# Altium footprint library FP_lib_PCB.PcbLib: 23 footprints (part 1 of 2)
Each footprint in its own frame and in the unit in brackets; x right, y up, seen from the top. Pads: shape width x height; smd on the part's side, far side on the other; paste and mask are expansions set on the pad; w line width, h text height; cw(c..) or ccw(c..) is an arc to the next point about the centre after c.
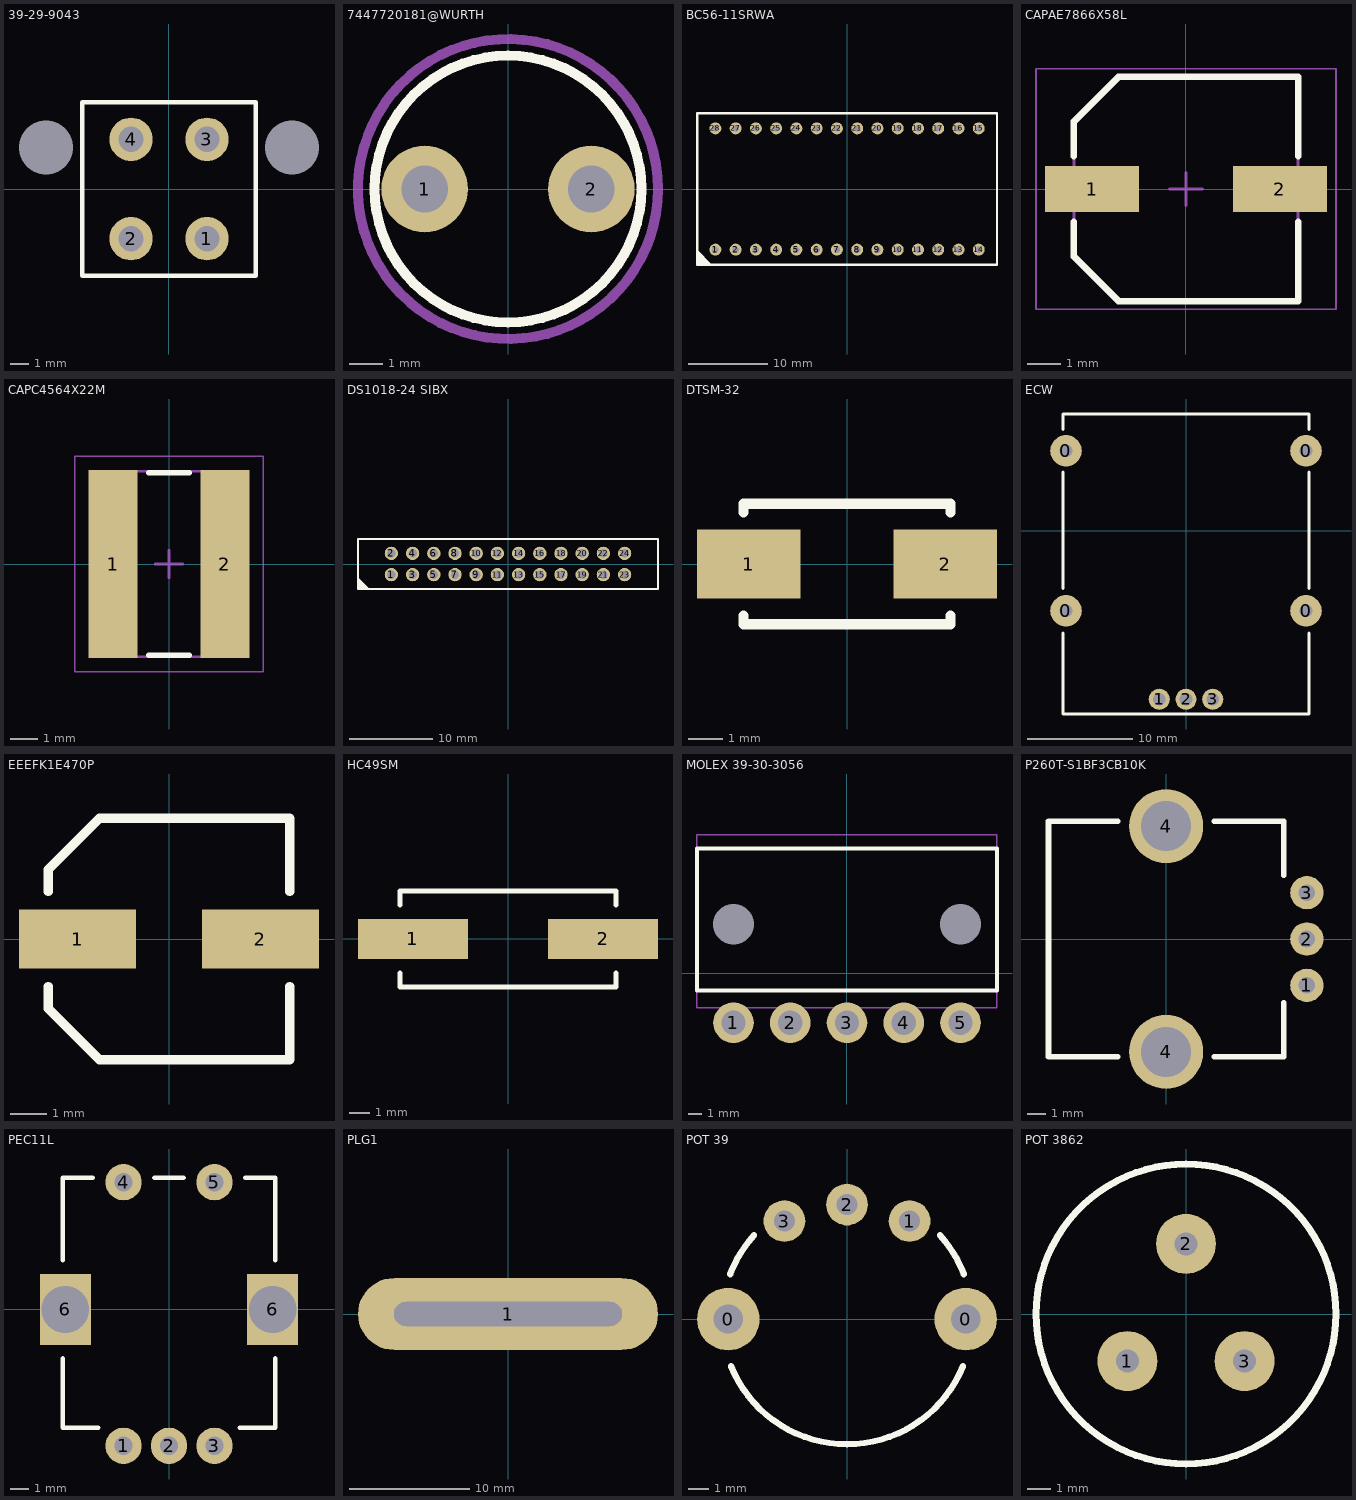
[diagram p0: the footprints below, top view; thin cyan lines are the x and y axes]

## 39-29-9043 [mm]
pads (6):
  round 2.4 hole 1.4: 1(2.1,-2.75) 2(-2.1,-2.75) 3(2.1,2.75) 4(-2.1,2.75)
  round 0 hole 3 unplated: ""(-6.8,2.3) ""(6.8,2.3)
Top Overlay:
  lines w0.254: -4.8,-4.8 -4.8,4.8 4.8,4.8 4.8,-4.8 -4.8,-4.8
3D body "039299043.stp": height 12.81, standoff -3.49, extent -8.189,-5 8.189,6

## 7447720181@WURTH [mm]
height 9.5
pads (2):
  round 2.6 hole 1.4: 1(-2.5,0) 2(2.5,0)
Top Overlay:
  circle w0.3: c0,0 r4
Mechanical 1:
  circle w0.3: c0,0 r4.5
3D body "7447720181.STEP": height 9.5, standoff -2, extent -3.9,-3.9 3.9,3.9

## BC56-11SRWA [mm]
pads (28):
  round 1.5 hole 0.8: 1(-16.51,-7.6) 2(-13.97,-7.6) 3(-11.43,-7.6) 4(-8.89,-7.6) 5(-6.35,-7.6) 6(-3.81,-7.6) 7(-1.27,-7.6) 8(1.27,-7.6) 9(3.81,-7.6) 10(6.35,-7.6) 11(8.89,-7.6) 12(11.43,-7.6) 13(13.97,-7.6) 14(16.51,-7.6) 15(16.51,7.6) 16(13.97,7.6) 17(11.43,7.6) 18(8.89,7.6) 19(6.35,7.6) 20(3.81,7.6) 21(1.27,7.6) 22(-1.27,7.6) 23(-3.81,7.6) 24(-6.35,7.6) 25(-8.89,7.6) 26(-11.43,7.6) 27(-13.97,7.6) 28(-16.51,7.6)
Top Overlay:
  region: -18.8,-9.5 -16.96,-9.5 -18.82,-7.64
  lines w0.3: -18.8,-9.5 18.8,-9.5 18.8,9.5 -18.8,9.5 -18.8,-9.5
3D body "BA56-11SRWA.STEP": height 8.11, standoff -3.99, extent -18.8,-9.5 18.8,9.5

## CAPAE7866X58L [mm] "Aluminum Electrolytic Capacitor, Body 6,60x6,60x5,80mm, IPC High Density"
height 5.8
pads (2):
  rect 2.85x1.4 smd: 1(-2.85,0) 2(2.85,0)
Top Overlay:
  lines w0.2: -3.4,-1 -3.4,-2.05 -2.05,-3.4 3.4,-3.4 3.4,-1 ; -3.4,1 -3.4,2.05 -2.05,3.4 3.4,3.4 3.4,1
Mechanical 13:
  lines w0.1: -3.4,-2.05 -2.05,-3.4 3.4,-3.4 3.4,3.4 -2.05,3.4 -3.4,2.05 -3.4,-2.05
Mechanical 15:
  lines w0.05: -4.55,-3.65 -4.55,3.65 4.55,3.65 4.55,-3.65 -4.55,-3.65
  lines w0.1: -0.5,0 0.5,0 ; 0,-0.5 0,0.5
3D body "CAPAE7866X58L.step": height 5.8, standoff -0.5, extent -3.9,-3.4 3.9,3.4

## CAPC4564X22M [mm] "Chip Capacitor, 2-Leads, Body 4,50x6,40mm, IPC Low Density"
height 2.2
pads (2):
  rect 1.8x6.9 smd: 1(-2.05,0) 2(2.05,0)
Top Overlay:
  lines w0.2: -0.75,-3.35 0.75,-3.35 ; -0.75,3.35 0.75,3.35
Mechanical 13:
  lines w0.1: -2.4,-3.4 2.4,-3.4 2.4,3.4 -2.4,3.4 -2.4,-3.4
Mechanical 15:
  lines w0.05: -3.45,-3.95 3.45,-3.95 3.45,3.95 -3.45,3.95 -3.45,-3.95
  lines w0.1: -0.5,0 0.5,0 ; 0,-0.5 0,0.5
3D body "CAPC4564X22M.step": height 2.2, standoff 0, extent -2.4,-3.4 2.4,3.4

## DS1018-24 SIBX [mm]
height 7.4
pads (24):
  round 1.6 hole 1: 1(-13.97,-1.27) 2(-13.97,1.27) 3(-11.43,-1.27) 4(-11.43,1.27) 5(-8.89,-1.27) 6(-8.89,1.27) 7(-6.35,-1.27) 8(-6.35,1.27) 9(-3.81,-1.27) 10(-3.81,1.27) 11(-1.27,-1.27) 12(-1.27,1.27) 13(1.27,-1.27) 14(1.27,1.27) 15(3.81,-1.27) 16(3.81,1.27) 17(6.35,-1.27) 18(6.35,1.27) 19(8.89,-1.27) 20(8.89,1.27) 21(11.43,-1.27) 22(11.43,1.27) 23(13.97,-1.27) 24(13.97,1.27)
Top Overlay:
  region: -17.97,-1.63 -16.62,-2.98 -17.966,-2.98 -17.97,-2.984
  lines w0.254: -17.97,-2.984 -17.97,2.984 17.97,2.984 17.97,-2.984 -17.97,-2.984
3D body "DS1018-24.STEP": height 7.4, standoff -2, extent -17.89,-3 17.89,3

## DTSM-32 [mm]
pads (2):
  rect 3x2 smd: 1(-2.85,0) 2(2.85,0)
Top Overlay:
  lines w0.3: -3,-1.5 -3,-1.75 3,-1.75 3,-1.5 ; -3,1.5 -3,1.75 3,1.75 3,1.5
3D body "DTSM-32.STEP": height 4.51, standoff 0.01, extent -3.6,-1.75 3.6,1.75

## ECW [mm]
pads (7):
  round 3 hole 1.2: 0(-11.4,-7.6) 0(-11.4,7.6) 0(11.4,-7.6) 0(11.4,7.6)
  round 2 hole 1.2: 1(-2.54,-16) 2(0,-16) 3(2.54,-16)
Top Overlay:
  lines w0.3: -11.7,-9.69 -11.7,-17.4 11.7,-17.4 11.7,-9.69 ; -11.7,-5.49 -11.7,5.56 ; -11.7,9.63 -11.7,11.1 11.7,11.1 11.7,9.63 ; 11.7,-5.49 11.7,5.56

## EEEFK1E470P [mm]
pads (2):
  rect 3.2x1.6 smd: 1(-2.5,0) 2(2.5,0)
Top Overlay:
  lines w0.254: -3.3,-1.3 -3.3,-1.9 -1.9,-3.3 3.3,-3.3 3.3,-1.3 ; -3.3,1.3 -3.3,1.9 -1.9,3.3 3.3,3.3 3.3,1.3

## HC49SM [mm]
pads (2):
  rect 5.5x2 smd: 1(-4.75,0) 2(4.75,0)
Top Overlay:
  lines w0.254: -5.4,-1.7 -5.4,-2.4 5.4,-2.4 5.4,-1.7 ; -5.4,1.7 -5.4,2.4 5.4,2.4 5.4,1.7
3D body "HC49SM.STEP": height 3.61, standoff 0.01, extent -6.5,-2.35 6.5,2.35

## MOLEX 39-30-3056 [mm]
height 5.8
pads (7):
  round 3 hole 1.8: 1(-8.4,-3.65) 2(-4.2,-3.65) 3(0,-3.65) 4(4.2,-3.65) 5(8.4,-3.65)
  round 0 hole 3 unplated: 2(-8.4,3.65) 2(8.4,3.65)
Top Overlay:
  lines w0.3: -11.1,-1.25 -11.1,9.25 11.1,9.25 11.1,-1.25 -11.1,-1.25
Mechanical 1:
  lines w0.1: -11.1,-2.55 11.1,-2.55 11.1,10.25 -11.1,10.25 -11.1,-2.55
3D body "039303056.stp": height 7.21, standoff -3.49, extent -11.1,-4.135 11.1,10.3

## P260T-S1BF3CB10K [mm]
pads (5):
  round 1.8 hole 0.9: 1(7.6,-2.5) 2(7.6,0) 3(7.6,2.5)
  round 4 hole 2.7: 4(0,-6.1) 4(0,6.1)
Top Overlay:
  lines w0.3: -2.6,-6.35 -6.35,-6.35 -6.35,6.35 -2.6,6.35 ; 2.6,-6.35 6.35,-6.35 6.35,-3.45 ; 2.6,6.35 6.35,6.35 6.35,3.45

## PEC11L [mm]
pads (7):
  round 2 hole 1: 1(-2.5,-7.5) 2(0,-7.5) 3(2.5,-7.5) 4(-2.5,7) 5(2.5,7)
  rect 2.8x3.9 hole 2.6 square: 6(-5.7,0) 6(5.7,0)
Top Overlay:
  lines w0.254: -5.85,-2.7 -5.85,-6.5 -3.9,-6.5 ; -5.85,2.7 -5.85,7.25 -4.2,7.25 ; -0.8,7.25 0.8,7.25 ; 3.9,-6.5 5.85,-6.5 5.85,-2.7 ; 4.2,7.25 5.85,7.25 5.85,2.7
3D body "PEC11L-4125F-S0020.STEP": height 28, standoff 0, extent -5.9,-6 5.9,6

## PLG1 [mm]
pads (1):
  oval 25x6 hole 2 slot 19 at 0 deg: 1(0,0)

## POT 39 [mm]
pads (5):
  round 3 hole 1.4: 0(-5.69,0) 0(5.69,0)
  round 2 hole 1: 1(3,4.7) 2(0,5.49) 3(-3,4.7)
Top Overlay:
  lines w0.3: -5.601,2.15 cw(c0,0) -4.459,4.015 ; -5.563,-2.248 ccw(c0,0) 5.563,-2.248 ; 4.459,4.015 cw(c0,0) 5.601,2.15

## POT 3862 [mm]
pads (3):
  round 2.6 hole 1: 1(-2.54,-2.04) 2(0,3.04) 3(2.54,-2.04)
Top Overlay:
  circle w0.3: c0,0 r6.5